# Altium footprint library XDCR_PEC12R-4130F-S0012.PcbLib: 1 footprints
Each footprint in its own frame and in the unit in brackets; x right, y up, seen from the top. Pads: shape width x height; smd on the part's side, far side on the other; paste and mask are expansions set on the pad; w line width, h text height; cw(c..) or ccw(c..) is an arc to the next point about the centre after c.
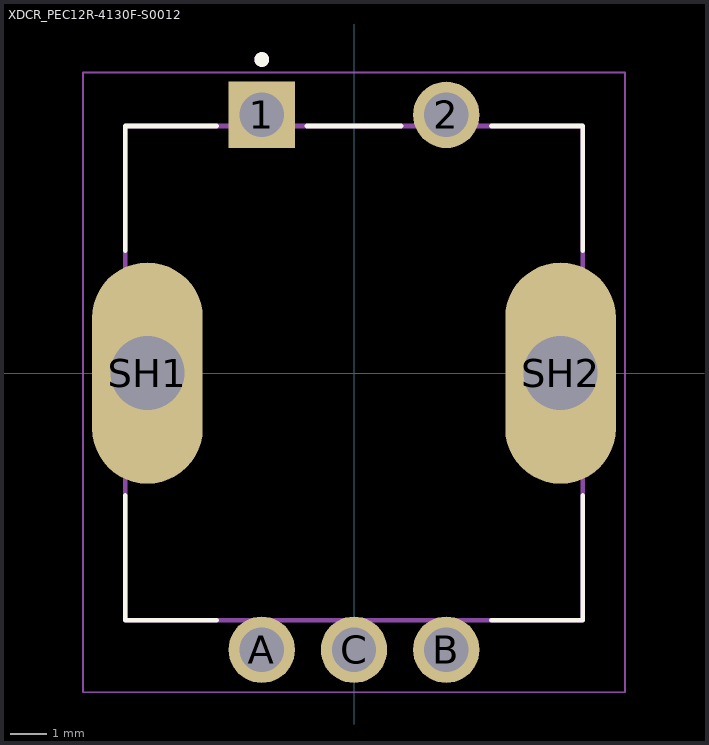
[diagram p0: the footprint, top view; thin cyan lines are the x and y axes]

## XDCR_PEC12R-4130F-S0012 [mm]
height 20.5
pads (7):
  rect 1.8x1.8 / inner round 1.8 / far side rect 1.8x1.8 hole 1.2: 1(-2.5,7)
  round 1.8 hole 1.2: 2(2.5,7) A(-2.5,-7.5) B(2.5,-7.5) C(0,-7.5)
  oval 3x6 hole 2 square: SH1(-5.6,0) SH2(5.6,0)
Top Overlay:
  circle w0.2: c-2.5,8.5 r0.1
  lines w0.127: -6.2,-3.32 -6.2,-6.7 -3.72,-6.7 ; -6.2,3.32 -6.2,6.7 -3.72,6.7 ; -1.28,6.7 1.28,6.7 ; 3.72,-6.7 6.2,-6.7 6.2,-3.32 ; 3.72,6.7 6.2,6.7 6.2,3.32
Assembly Top:
  circle w0.2: c-2.5,8.5 r0.1
  lines w0.127: -6.2,-6.7 -6.2,6.7 6.2,6.7 6.2,-6.7 -6.2,-6.7
Courtyard Top:
  lines w0.05: -7.35,-8.65 -7.35,8.15 7.35,8.15 7.35,-8.65 -7.35,-8.65
3D body "step_temp.STEP": height 30, standoff -3.5, extent -7,-7.7 7,7.2